# Altium schematic symbol library FA-23816P0000MB-C3.SchLib: 2 symbols
Pins are listed as number, name and electrical type; pins without a type are passive.

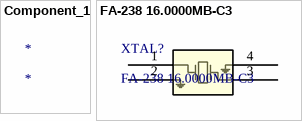
[diagram p0: symbols Component_1 to FA-238 16.0000MB-C3]

## Component_1
designator *

## FA-238 16.0000MB-C3
designator XTAL?
No Description Available; Vendor: Epson; Built_By: EMA_Cory; SourceLibrary: Add_to_database_2021-04-27; Manufacturer_Part_Number: FA-238 16.0000MB-C3; Datasheet: https://support.epson.biz/td/api/doc_check.php?dl=brief_FA-238&lang=en; Copyright: Copyright (C) 2018 Accelerated Designs. All rights reserved; RefDes: RefDes; Type: DEV
footprint FA-238_EPS
pins: 1, 2, 3, 4